# EAGLE library part TPS2561A (library TexasInstruments)
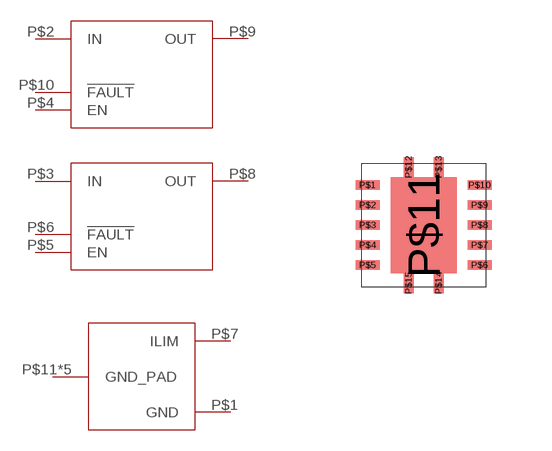
[diagram p3: symbol with the pads of TPS256*; footprint TPS256*]

Designator prefix U; gates G$1=TPS2561A_SUPPLY G$2=TPS2561A_USB G$3=TPS2561A_USB

## TPS2561A  [TPS256*]
P$1  G$1:GND
P$2  G$2:IN
P$3  G$3:IN
P$4  G$2:EN
P$5  G$3:EN
P$6  G$3:!FAULT
P$7  G$1:ILIM
P$8  G$3:OUT
P$9  G$2:OUT
P$10  G$2:!FAULT
P$11  G$1:GND_PAD
P$12  G$1:GND_PAD
P$13  G$1:GND_PAD
P$14  G$1:GND_PAD
P$15  G$1:GND_PAD

## Footprint TPS256* (pad centres in mm)
smd 0.6 x 0.24: P$1 -1.4,1; P$2 -1.4,0.5; P$3 -1.4,0; P$4 -1.4,-0.5; P$5 -1.4,-1; P$6 1.4,-1; P$7 1.4,-0.5; P$8 1.4,0; P$9 1.4,0.5; P$10 1.4,1
smd 1.65 x 2.4: P$11 0,0
smd 0.25 x 0.5: P$12 -0.375,1.45; P$13 0.375,1.45; P$14 0.375,-1.45; P$15 -0.375,-1.45